# Altium footprint library 50ohm_male_antenna_jack_RECEP20279P001EP01.PcbLib: 1 footprints
Each footprint in its own frame and in the unit in brackets; x right, y up, seen from the top. Pads: shape width x height; smd on the part's side, far side on the other; paste and mask are expansions set on the pad; w line width, h text height; cw(c..) or ccw(c..) is an arc to the next point about the centre after c.
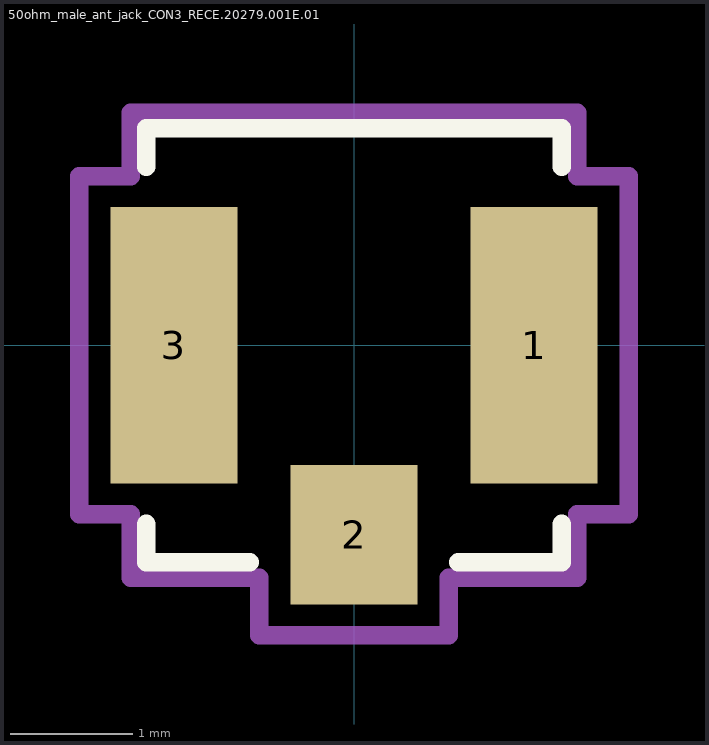
[diagram p0: the footprint, top view; thin cyan lines are the x and y axes]

## 50ohm_male_ant_jack_CON3_RECE.20279.001E.01 [mil]
pads (3):
  rect 41x89 smd paste+0 mask+0: 1(58.07,0) 3(-58.07,0)
  rect 41x45 smd paste+0 mask+0: 2(0,-61.02)
Top Overlay:
  lines w6: -67,-57.6 -67,-70 -33.6,-70 ; -67,57.6 -67,70 67,70 67,57.6 ; 33.6,-70 67,-70 67,-57.6
Mechanical 15:
  lines w6: -88.57,-54.5 -72,-54.5 -72,-75 -30.5,-75 -30.5,-93.52 30.5,-93.52 30.5,-75 72,-75 72,-54.5 88.57,-54.5 88.57,54.5 72,54.5 72,75 -72,75 -72,54.5 -88.57,54.5 -88.57,-54.5